# Altium integrated library Resistors.IntLib: 4954 symbols (part 7 of 32)
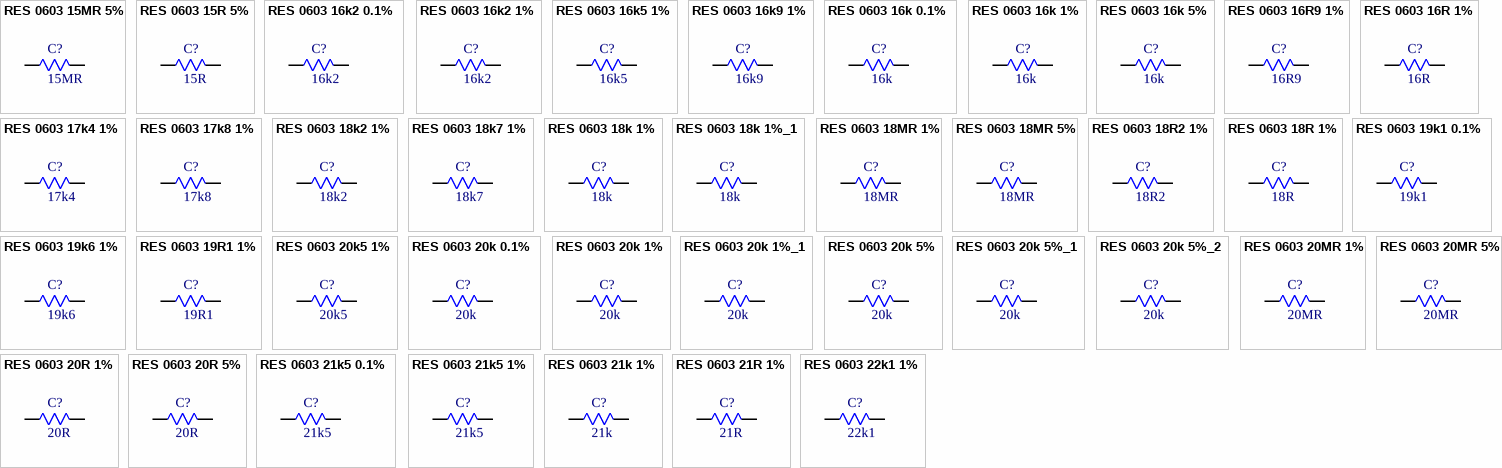
[diagram p129: symbols RES 0603 15MR 5% to RES 0603 22k1 1%]

## RES 0603 21k5 0.1%
designator C?, comment 21k5
100mW 21.5kR 75V Thick Film Resistor 100ppm/â„ƒ 0.1% 0603 Chip Resistor - Surface Mount RoHS; Manufacturer: FOJAN; Manufacturer Part Number: FRH0603B2152TS; Supplier: LCSC; Supplier Part Number: C49196677; Resistance: 21k5; Tolerance: 0.1%; Voltage Rating: 75V; Power: 100mW
footprint RES SMD 0603
pins: 1, 2

## RES 0603 21k5 1%
designator C?, comment 21k5
21.5kR 1% 100mW 0603 Thick Film Resistor; Manufacturer: FOJAN; Manufacturer Part Number: FRC0603F2152TS; Voltage Rating: 75V; Supplier: LCSC; Supplier Part Number: C2933169; Resistance: 21k5; Tolerance: 1%; Power: 100mW
footprint RES SMD 0603
pins: 1, 2

## RES 0603 21k 1%
designator C?, comment 21k
21kR 1% 100mW 0603 Thick Film Resistor; Manufacturer: FOJAN; Manufacturer Part Number: FRC0603F2102TS; Voltage Rating: 75V; Supplier: LCSC; Supplier Part Number: C2930076; Resistance: 21k; Tolerance: 1%; Power: 100mW
footprint RES SMD 0603
pins: 1, 2

## RES 0603 21R 1%
designator C?, comment 21R
21R 1% 100mW 0603 Thick Film Resistor; Manufacturer: FOJAN; Manufacturer Part Number: FRC0603F21R0TS; Voltage Rating: 75V; Supplier: LCSC; Supplier Part Number: C5713281; Resistance: 21R; Tolerance: 1%; Power: 100mW
footprint RES SMD 0603
pins: 1, 2

## RES 0603 22k1 1%
designator C?, comment 22k1
22.1kR 1% 100mW 0603 Thick Film Resistor; Manufacturer: FOJAN; Manufacturer Part Number: FRC0603F2212TS; Voltage Rating: 75V; Supplier: LCSC; Supplier Part Number: C2960862; Resistance: 22k1; Tolerance: 1%; Power: 100mW
footprint RES SMD 0603
pins: 1, 2

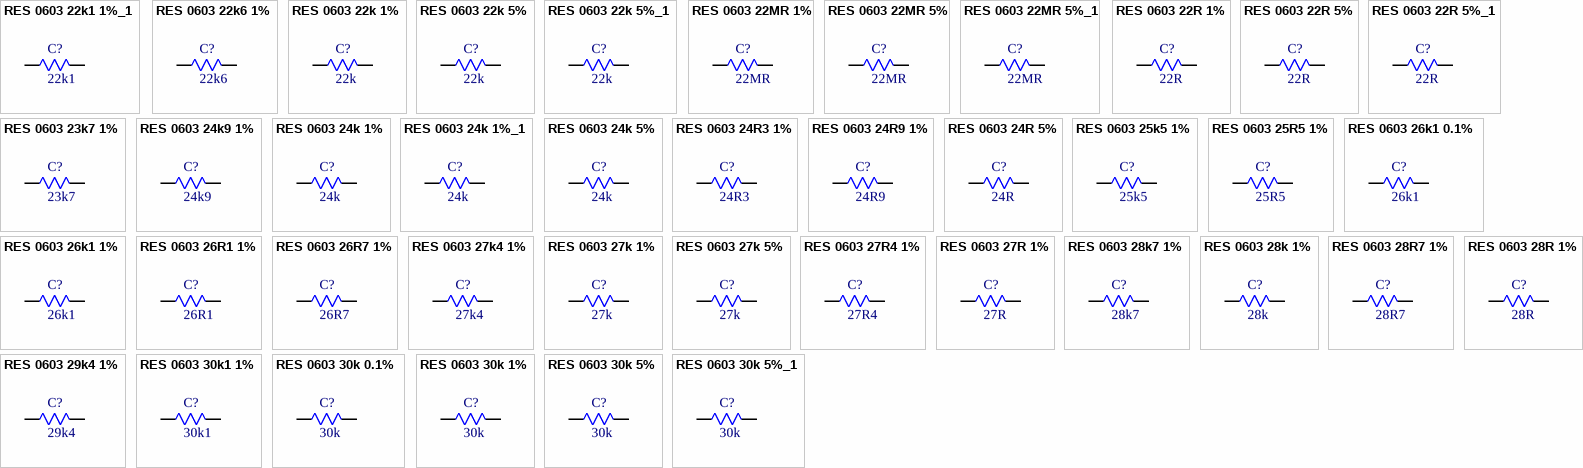
[diagram p24: symbols RES 0603 22k1 1%_1 to RES 0603 30k 5%_1]

## RES 0603 22k1 1%_1
designator C?, comment 22k1
100mW 22.1kR 75V Thick Film Resistor 1% 100ppm/â„ƒ 0603 Chip Resistor - Surface Mount RoHS; Manufacturer: FOJAN; Manufacturer Part Number: FRQ0603F2212TS; Supplier: LCSC; Supplier Part Number: C7468675; Resistance: 22k1; Tolerance: 1%; Voltage Rating: 75V; Power: 100mW
footprint RES SMD 0603
pins: 1, 2

## RES 0603 22k6 1%
designator C?, comment 22k6
22.6kR 1% 100mW 0603 Thick Film Resistor; Manufacturer: FOJAN; Manufacturer Part Number: FRC0603F2262TS; Voltage Rating: 75V; Supplier: LCSC; Supplier Part Number: C2999509; Resistance: 22k6; Tolerance: 1%; Power: 100mW
footprint RES SMD 0603
pins: 1, 2

## RES 0603 22k 1%
designator C?, comment 22k
22kR 1% 100mW 0603 Thick Film Resistor; Manufacturer: FOJAN; Manufacturer Part Number: FRC0603F2202TS; Voltage Rating: 75V; Supplier: LCSC; Supplier Part Number: C2907015; Resistance: 22k; Tolerance: 1%; Power: 100mW
footprint RES SMD 0603
pins: 1, 2

## RES 0603 22k 5%
designator C?, comment 22k
22kR 5% 100mW 0603 Thick Film Resistor; Manufacturer: FOJAN; Manufacturer Part Number: FRC0603J223 TS; Voltage Rating: 75V; Supplier: LCSC; Supplier Part Number: C2907128; Resistance: 22k; Tolerance: 5%; Power: 100mW
footprint RES SMD 0603
pins: 1, 2

## RES 0603 22k 5%_1
designator C?, comment 22k
22kR 5% 100mW 0603 Thick Film Resistor AEC-Q200; Manufacturer: FOJAN; Manufacturer Part Number: FRQ0603J223 TS; Voltage Rating: 75V; Supplier: LCSC; Supplier Part Number: C2934397; Resistance: 22k; Tolerance: 5%; Power: 100mW
footprint RES SMD 0603
pins: 1, 2

## RES 0603 22MR 1%
designator C?, comment 22MR
22MR 1% 100mW 0603 Thick Film Resistor; Manufacturer: FOJAN; Manufacturer Part Number: FRG0603F2205TS; Voltage Rating: 75V; Supplier: LCSC; Supplier Part Number: C3000522; Resistance: 22MR; Tolerance: 1%; Power: 100mW
footprint RES SMD 0603
pins: 1, 2

## RES 0603 22MR 5%
designator C?, comment 22MR
22MR 5% 100mW 0603 Thick Film Resistor; Manufacturer: FOJAN; Manufacturer Part Number: FRG0603J226 TS; Voltage Rating: 75V; Supplier: LCSC; Supplier Part Number: C3013336; Resistance: 22MR; Tolerance: 5%; Power: 100mW
footprint RES SMD 0603
pins: 1, 2

## RES 0603 22MR 5%_1
designator C?, comment 22MR
22MR 5% 100mW 0603 Thick Film Resistor; Manufacturer: FOJAN; Manufacturer Part Number: FRC0603J226TS; Voltage Rating: 75V; Supplier: LCSC; Supplier Part Number: C2930035; Resistance: 22MR; Tolerance: 5%; Power: 100mW
footprint RES SMD 0603
pins: 1, 2

## RES 0603 22R 1%
designator C?, comment 22R
22R 1% 100mW 0603 Thick Film Resistor; Manufacturer: FOJAN; Manufacturer Part Number: FRC0603F22R0TS; Voltage Rating: 75V; Supplier: LCSC; Supplier Part Number: C2930077; Resistance: 22R; Tolerance: 1%; Power: 100mW
footprint RES SMD 0603
pins: 1, 2

## RES 0603 22R 5%
designator C?, comment 22R
22R 5% 100mW 0603 Thick Film Resistor; Manufacturer: FOJAN; Manufacturer Part Number: FRC0603J220 TS; Voltage Rating: 75V; Supplier: LCSC; Supplier Part Number: C2907129; Resistance: 22R; Tolerance: 5%; Power: 100mW
footprint RES SMD 0603
pins: 1, 2

## RES 0603 22R 5%_1
designator C?, comment 22R
22R 100mW 75V Thick Film Resistor 100ppm/â„ƒ 5% 0603 Chip Resistor - Surface Mount RoHS; Manufacturer: FOJAN; Manufacturer Part Number: FRR0603J220 TS; Supplier: LCSC; Supplier Part Number: C49196797; Resistance: 22R; Tolerance: 5%; Voltage Rating: 75V; Power: 100mW
footprint RES SMD 0603
pins: 1, 2

## RES 0603 23k7 1%
designator C?, comment 23k7
23.7kR 1% 100mW 0603 Thick Film Resistor; Manufacturer: FOJAN; Manufacturer Part Number: FRC0603F2372TS; Voltage Rating: 75V; Supplier: LCSC; Supplier Part Number: C2933175; Resistance: 23k7; Tolerance: 1%; Power: 100mW
footprint RES SMD 0603
pins: 1, 2

## RES 0603 24k9 1%
designator C?, comment 24k9
24.9kR 1% 100mW 0603 Thick Film Resistor; Manufacturer: FOJAN; Manufacturer Part Number: FRC0603F2492TS; Voltage Rating: 75V; Supplier: LCSC; Supplier Part Number: C2930080; Resistance: 24k9; Tolerance: 1%; Power: 100mW
footprint RES SMD 0603
pins: 1, 2

## RES 0603 24k 1%
designator C?, comment 24k
24kR 1% 100mW 0603 Thick Film Resistor; Manufacturer: FOJAN; Manufacturer Part Number: FRC0603F2402TS; Voltage Rating: 75V; Supplier: LCSC; Supplier Part Number: C2930081; Resistance: 24k; Tolerance: 1%; Power: 100mW
footprint RES SMD 0603
pins: 1, 2

## RES 0603 24k 1%_1
designator C?, comment 24k
100mW 24kR 75V Thick Film Resistor 1% 100ppm/â„ƒ 0603 Chip Resistor - Surface Mount RoHS; Manufacturer: FOJAN; Manufacturer Part Number: FRQ0603F2402TS; Supplier: LCSC; Supplier Part Number: C7468703; Resistance: 24k; Tolerance: 1%; Voltage Rating: 75V; Power: 100mW
footprint RES SMD 0603
pins: 1, 2

## RES 0603 24k 5%
designator C?, comment 24k
24kR 5% 100mW 0603 Thick Film Resistor; Manufacturer: FOJAN; Manufacturer Part Number: FRC0603J243 TS; Voltage Rating: 75V; Supplier: LCSC; Supplier Part Number: C2907131; Resistance: 24k; Tolerance: 5%; Power: 100mW
footprint RES SMD 0603
pins: 1, 2

## RES 0603 24R3 1%
designator C?, comment 24R3
24.3R 1% 100mW 0603 Thick Film Resistor; Manufacturer: FOJAN; Manufacturer Part Number: FRC0603F24R3TS; Voltage Rating: 75V; Supplier: LCSC; Supplier Part Number: C2999472; Resistance: 24R3; Tolerance: 1%; Power: 100mW
footprint RES SMD 0603
pins: 1, 2

## RES 0603 24R9 1%
designator C?, comment 24R9
24.9R 1% 100mW 0603 Thick Film Resistor; Manufacturer: FOJAN; Manufacturer Part Number: FRC0603F24R9TS; Voltage Rating: 75V; Supplier: LCSC; Supplier Part Number: C5203999; Resistance: 24R9; Tolerance: 1%; Power: 100mW
footprint RES SMD 0603
pins: 1, 2

## RES 0603 24R 5%
designator C?, comment 24R
24R 5% 100mW 0603 Thick Film Resistor; Manufacturer: FOJAN; Manufacturer Part Number: FRC0603J240 TS; Voltage Rating: 75V; Supplier: LCSC; Supplier Part Number: C2907132; Resistance: 24R; Tolerance: 5%; Power: 100mW
footprint RES SMD 0603
pins: 1, 2

## RES 0603 25k5 1%
designator C?, comment 25k5
25.5kR 1% 100mW 0603 Thick Film Resistor; Manufacturer: FOJAN; Manufacturer Part Number: FRC0603F2552TS; Voltage Rating: 75V; Supplier: LCSC; Supplier Part Number: C2933179; Resistance: 25k5; Tolerance: 1%; Power: 100mW
footprint RES SMD 0603
pins: 1, 2

## RES 0603 25R5 1%
designator C?, comment 25R5
25.5R 1% 100mW 0603 Thick Film Resistor; Manufacturer: FOJAN; Manufacturer Part Number: FRC0603F25R5TS; Voltage Rating: 75V; Supplier: LCSC; Supplier Part Number: C5126091; Resistance: 25R5; Tolerance: 1%; Power: 100mW
footprint RES SMD 0603
pins: 1, 2

## RES 0603 26k1 0.1%
designator C?, comment 26k1
100mW 26.1kR 75V Thick Film Resistor 100ppm/â„ƒ 0.1% 0603 Chip Resistor - Surface Mount RoHS; Manufacturer: FOJAN; Manufacturer Part Number: FRH0603B2612TS; Supplier: LCSC; Supplier Part Number: C49196678; Resistance: 26k1; Tolerance: 0.1%; Voltage Rating: 75V; Power: 100mW
footprint RES SMD 0603
pins: 1, 2

## RES 0603 26k1 1%
designator C?, comment 26k1
26.1kR 1% 100mW 0603 Thick Film Resistor; Manufacturer: FOJAN; Manufacturer Part Number: FRC0603F2612TS; Voltage Rating: 75V; Supplier: LCSC; Supplier Part Number: C2933182; Resistance: 26k1; Tolerance: 1%; Power: 100mW
footprint RES SMD 0603
pins: 1, 2

## RES 0603 26R1 1%
designator C?, comment 26R1
26.1R 100mW 75V Thick Film Resistor 100ppm/â„ƒ 1% 0603 Chip Resistor - Surface Mount RoHS; Manufacturer: FOJAN; Manufacturer Part Number: FRC0603F26R1TS; Supplier: LCSC; Supplier Part Number: C22375099; Resistance: 26R1; Tolerance: 1%; Voltage Rating: 75V; Power: 100mW
footprint RES SMD 0603
pins: 1, 2

## RES 0603 26R7 1%
designator C?, comment 26R7
26.7R 1% 100mW 0603 Thick Film Resistor; Manufacturer: FOJAN; Manufacturer Part Number: FRC0603F26R7TS; Voltage Rating: 75V; Supplier: LCSC; Supplier Part Number: C2933185; Resistance: 26R7; Tolerance: 1%; Power: 100mW
footprint RES SMD 0603
pins: 1, 2

## RES 0603 27k4 1%
designator C?, comment 27k4
27.4kR 1% 100mW 0603 Thick Film Resistor; Manufacturer: FOJAN; Manufacturer Part Number: FRC0603F2742TS; Voltage Rating: 75V; Supplier: LCSC; Supplier Part Number: C2933186; Resistance: 27k4; Tolerance: 1%; Power: 100mW
footprint RES SMD 0603
pins: 1, 2

## RES 0603 27k 1%
designator C?, comment 27k
27kR 1% 100mW 0603 Thick Film Resistor; Manufacturer: FOJAN; Manufacturer Part Number: FRC0603F2702TS; Voltage Rating: 75V; Supplier: LCSC; Supplier Part Number: C2930084; Resistance: 27k; Tolerance: 1%; Power: 100mW
footprint RES SMD 0603
pins: 1, 2

## RES 0603 27k 5%
designator C?, comment 27k
27kR 5% 100mW 0603 Thick Film Resistor; Manufacturer: FOJAN; Manufacturer Part Number: FRC0603J273 TS; Voltage Rating: 75V; Supplier: LCSC; Supplier Part Number: C2907135; Resistance: 27k; Tolerance: 5%; Power: 100mW
footprint RES SMD 0603
pins: 1, 2

## RES 0603 27R4 1%
designator C?, comment 27R4
27.4R 1% 100mW 0603 Thick Film Resistor; Manufacturer: FOJAN; Manufacturer Part Number: FRC0603F27R4TS; Voltage Rating: 75V; Supplier: LCSC; Supplier Part Number: C5126244; Resistance: 27R4; Tolerance: 1%; Power: 100mW
footprint RES SMD 0603
pins: 1, 2

## RES 0603 27R 1%
designator C?, comment 27R
27R 1% 100mW 0603 Thick Film Resistor; Manufacturer: FOJAN; Manufacturer Part Number: FRC0603F27R0TS; Voltage Rating: 75V; Supplier: LCSC; Supplier Part Number: C2907021; Resistance: 27R; Tolerance: 1%; Power: 100mW
footprint RES SMD 0603
pins: 1, 2

## RES 0603 28k7 1%
designator C?, comment 28k7
28.7kR 1% 100mW 0603 Thick Film Resistor; Manufacturer: FOJAN; Manufacturer Part Number: FRC0603F2872TS; Voltage Rating: 75V; Supplier: LCSC; Supplier Part Number: C2998119; Resistance: 28k7; Tolerance: 1%; Power: 100mW
footprint RES SMD 0603
pins: 1, 2

## RES 0603 28k 1%
designator C?, comment 28k
28kR 1% 100mW 0603 Thick Film Resistor; Manufacturer: FOJAN; Manufacturer Part Number: FRC0603F2802TS; Voltage Rating: 75V; Supplier: LCSC; Supplier Part Number: C2960810; Resistance: 28k; Tolerance: 1%; Power: 100mW
footprint RES SMD 0603
pins: 1, 2

## RES 0603 28R7 1%
designator C?, comment 28R7
28.7R 1% 100mW 0603 Thick Film Resistor; Manufacturer: FOJAN; Manufacturer Part Number: FRC0603F28R7TS; Voltage Rating: 75V; Supplier: LCSC; Supplier Part Number: C2930085; Resistance: 28R7; Tolerance: 1%; Power: 100mW
footprint RES SMD 0603
pins: 1, 2

## RES 0603 28R 1%
designator C?, comment 28R
28R 1% 100mW 0603 Thick Film Resistor; Manufacturer: FOJAN; Manufacturer Part Number: FRC0603F28R0TS; Voltage Rating: 75V; Supplier: LCSC; Supplier Part Number: C5126020; Resistance: 28R; Tolerance: 1%; Power: 100mW
footprint RES SMD 0603
pins: 1, 2

## RES 0603 29k4 1%
designator C?, comment 29k4
29.4kR 1% 100mW 0603 Thick Film Resistor; Manufacturer: FOJAN; Manufacturer Part Number: FRC0603F2942TS; Voltage Rating: 75V; Supplier: LCSC; Supplier Part Number: C2930086; Resistance: 29k4; Tolerance: 1%; Power: 100mW
footprint RES SMD 0603
pins: 1, 2

## RES 0603 30k1 1%
designator C?, comment 30k1
30.1kR 1% 100mW 0603 Thick Film Resistor; Manufacturer: FOJAN; Manufacturer Part Number: FRC0603F3012TS; Voltage Rating: 75V; Supplier: LCSC; Supplier Part Number: C2960871; Resistance: 30k1; Tolerance: 1%; Power: 100mW
footprint RES SMD 0603
pins: 1, 2

## RES 0603 30k 0.1%
designator C?, comment 30k
100mW 30kR 75V Thick Film Resistor 100ppm/â„ƒ 0.1% 0603 Chip Resistor - Surface Mount RoHS; Manufacturer: FOJAN; Manufacturer Part Number: FRH0603B3002TS; Supplier: LCSC; Supplier Part Number: C49196681; Resistance: 30k; Tolerance: 0.1%; Voltage Rating: 75V; Power: 100mW
footprint RES SMD 0603
pins: 1, 2

## RES 0603 30k 1%
designator C?, comment 30k
30kR 1% 100mW 0603 Thick Film Resistor; Manufacturer: FOJAN; Manufacturer Part Number: FRC0603F3002TS; Voltage Rating: 75V; Supplier: LCSC; Supplier Part Number: C2907025; Resistance: 30k; Tolerance: 1%; Power: 100mW
footprint RES SMD 0603
pins: 1, 2

## RES 0603 30k 5%
designator C?, comment 30k
30kR 5% 100mW 0603 Thick Film Resistor AEC-Q200; Manufacturer: FOJAN; Manufacturer Part Number: FRQ0603J303 TS; Voltage Rating: 75V; Supplier: LCSC; Supplier Part Number: C2934398; Resistance: 30k; Tolerance: 5%; Power: 100mW
footprint RES SMD 0603
pins: 1, 2

## RES 0603 30k 5%_1
designator C?, comment 30k
30kR 5% 100mW 0603 Thick Film Resistor; Manufacturer: FOJAN; Manufacturer Part Number: FRC0603J303 TS; Voltage Rating: 75V; Supplier: LCSC; Supplier Part Number: C2907149; Resistance: 30k; Tolerance: 5%; Power: 100mW
footprint RES SMD 0603
pins: 1, 2

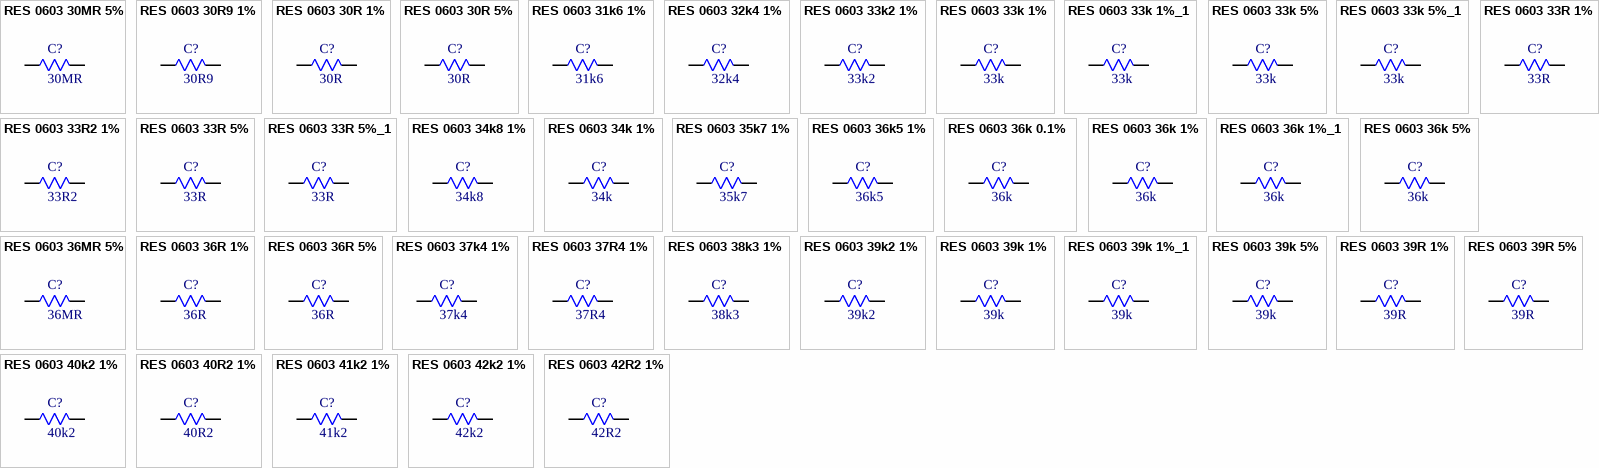
[diagram p25: symbols RES 0603 30MR 5% to RES 0603 42R2 1%]

## RES 0603 30MR 5%
designator C?, comment 30MR
30MR 5% 100mW 0603 Thick Film Resistor; Manufacturer: FOJAN; Manufacturer Part Number: FRG0603J306 TS; Voltage Rating: 75V; Supplier: LCSC; Supplier Part Number: C5126263; Resistance: 30MR; Tolerance: 5%; Power: 100mW
footprint RES SMD 0603
pins: 1, 2

## RES 0603 30R9 1%
designator C?, comment 30R9
30.9R 1% 100mW 0603 Thick Film Resistor; Manufacturer: FOJAN; Manufacturer Part Number: FRC0603F30R9TS; Voltage Rating: 75V; Supplier: LCSC; Supplier Part Number: C5204001; Resistance: 30R9; Tolerance: 1%; Power: 100mW
footprint RES SMD 0603
pins: 1, 2

## RES 0603 30R 1%
designator C?, comment 30R
30R 1% 100mW 0603 Thick Film Resistor; Manufacturer: FOJAN; Manufacturer Part Number: FRC0603F30R0TS; Voltage Rating: 75V; Supplier: LCSC; Supplier Part Number: C2907026; Resistance: 30R; Tolerance: 1%; Power: 100mW
footprint RES SMD 0603
pins: 1, 2

## RES 0603 30R 5%
designator C?, comment 30R
30R 5% 100mW 0603 Thick Film Resistor; Manufacturer: FOJAN; Manufacturer Part Number: FRC0603J300 TS; Voltage Rating: 75V; Supplier: LCSC; Supplier Part Number: C2907150; Resistance: 30R; Tolerance: 5%; Power: 100mW
footprint RES SMD 0603
pins: 1, 2

## RES 0603 31k6 1%
designator C?, comment 31k6
31.6kR 1% 100mW 0603 Thick Film Resistor; Manufacturer: FOJAN; Manufacturer Part Number: FRC0603F3162TS; Voltage Rating: 75V; Supplier: LCSC; Supplier Part Number: C2933196; Resistance: 31k6; Tolerance: 1%; Power: 100mW
footprint RES SMD 0603
pins: 1, 2

## RES 0603 32k4 1%
designator C?, comment 32k4
32.4kR 1% 100mW 0603 Thick Film Resistor; Manufacturer: FOJAN; Manufacturer Part Number: FRC0603F3242TS; Voltage Rating: 75V; Supplier: LCSC; Supplier Part Number: C2998122; Resistance: 32k4; Tolerance: 1%; Power: 100mW
footprint RES SMD 0603
pins: 1, 2

## RES 0603 33k2 1%
designator C?, comment 33k2
33.2kR 1% 100mW 0603 Thick Film Resistor; Manufacturer: FOJAN; Manufacturer Part Number: FRC0603F3322TS; Voltage Rating: 75V; Supplier: LCSC; Supplier Part Number: C2933200; Resistance: 33k2; Tolerance: 1%; Power: 100mW
footprint RES SMD 0603
pins: 1, 2

## RES 0603 33k 1%
designator C?, comment 33k
33kR 1% 100mW 0603 Thick Film Resistor; Manufacturer: FOJAN; Manufacturer Part Number: FRC0603F3302TS; Voltage Rating: 75V; Supplier: LCSC; Supplier Part Number: C2907028; Resistance: 33k; Tolerance: 1%; Power: 100mW
footprint RES SMD 0603
pins: 1, 2

## RES 0603 33k 1%_1
designator C?, comment 33k
33kR 1% 100mW 0603 Thick Film Resistor AEC-Q200; Manufacturer: FOJAN; Manufacturer Part Number: FRQ0603F3302TS; Voltage Rating: 75V; Supplier: LCSC; Supplier Part Number: C5713436; Resistance: 33k; Tolerance: 1%; Power: 100mW
footprint RES SMD 0603
pins: 1, 2

## RES 0603 33k 5%
designator C?, comment 33k
33kR 100mW 75V Thick Film Resistor 5% 100ppm/â„ƒ 0603 Chip Resistor - Surface Mount RoHS; Manufacturer: FOJAN; Manufacturer Part Number: FRQ0603J333 TS; Supplier: LCSC; Supplier Part Number: C7468422; Resistance: 33k; Tolerance: 5%; Voltage Rating: 75V; Power: 100mW
footprint RES SMD 0603
pins: 1, 2

## RES 0603 33k 5%_1
designator C?, comment 33k
33kR 100mW 75V Thick Film Resistor 100ppm/â„ƒ 5% 0603 Chip Resistor - Surface Mount RoHS; Manufacturer: FOJAN; Manufacturer Part Number: FRR0603J333 TS; Supplier: LCSC; Supplier Part Number: C49196802; Resistance: 33k; Tolerance: 5%; Voltage Rating: 75V; Power: 100mW
footprint RES SMD 0603
pins: 1, 2

## RES 0603 33R2 1%
designator C?, comment 33R2
33.2R 1% 100mW 0603 Thick Film Resistor; Manufacturer: FOJAN; Manufacturer Part Number: FRC0603F33R2TS; Voltage Rating: 75V; Supplier: LCSC; Supplier Part Number: C2930093; Resistance: 33R2; Tolerance: 1%; Power: 100mW
footprint RES SMD 0603
pins: 1, 2

## RES 0603 33R 1%
designator C?, comment 33R
33R 1% 100mW 0603 Thick Film Resistor; Manufacturer: FOJAN; Manufacturer Part Number: FRC0603F33R0TS; Voltage Rating: 75V; Supplier: LCSC; Supplier Part Number: C2909394; Resistance: 33R; Tolerance: 1%; Power: 100mW
footprint RES SMD 0603
pins: 1, 2

## RES 0603 33R 5%
designator C?, comment 33R
33R 5% 100mW 0603 Thick Film Resistor; Manufacturer: FOJAN; Manufacturer Part Number: FRC0603J330 TS; Voltage Rating: 75V; Supplier: LCSC; Supplier Part Number: C2907154; Resistance: 33R; Tolerance: 5%; Power: 100mW
footprint RES SMD 0603
pins: 1, 2

## RES 0603 33R 5%_1
designator C?, comment 33R
33R 100mW 75V Thick Film Resistor 100ppm/â„ƒ 5% 0603 Chip Resistor - Surface Mount RoHS; Manufacturer: FOJAN; Manufacturer Part Number: FRR0603J330 TS; Supplier: LCSC; Supplier Part Number: C49196803; Resistance: 33R; Tolerance: 5%; Voltage Rating: 75V; Power: 100mW
footprint RES SMD 0603
pins: 1, 2

## RES 0603 34k8 1%
designator C?, comment 34k8
34.8kR 1% 100mW 0603 Thick Film Resistor; Manufacturer: FOJAN; Manufacturer Part Number: FRC0603F3482TS; Voltage Rating: 75V; Supplier: LCSC; Supplier Part Number: C2933204; Resistance: 34k8; Tolerance: 1%; Power: 100mW
footprint RES SMD 0603
pins: 1, 2

## RES 0603 34k 1%
designator C?, comment 34k
34kR 1% 100mW 0603 Thick Film Resistor; Manufacturer: FOJAN; Manufacturer Part Number: FRC0603F3402TS; Voltage Rating: 75V; Supplier: LCSC; Supplier Part Number: C2933202; Resistance: 34k; Tolerance: 1%; Power: 100mW
footprint RES SMD 0603
pins: 1, 2

## RES 0603 35k7 1%
designator C?, comment 35k7
35.7kR 1% 100mW 0603 Thick Film Resistor; Manufacturer: FOJAN; Manufacturer Part Number: FRC0603F3572TS; Voltage Rating: 75V; Supplier: LCSC; Supplier Part Number: C2933207; Resistance: 35k7; Tolerance: 1%; Power: 100mW
footprint RES SMD 0603
pins: 1, 2

## RES 0603 36k5 1%
designator C?, comment 36k5
36.5kR 1% 100mW 0603 Thick Film Resistor; Manufacturer: FOJAN; Manufacturer Part Number: FRC0603F3652TS; Voltage Rating: 75V; Supplier: LCSC; Supplier Part Number: C2930095; Resistance: 36k5; Tolerance: 1%; Power: 100mW
footprint RES SMD 0603
pins: 1, 2

## RES 0603 36k 0.1%
designator C?, comment 36k
100mW 36kR 75V Thick Film Resistor 100ppm/â„ƒ 0.1% 0603 Chip Resistor - Surface Mount RoHS; Manufacturer: FOJAN; Manufacturer Part Number: FRH0603B3602TS; Supplier: LCSC; Supplier Part Number: C49196670; Resistance: 36k; Tolerance: 0.1%; Voltage Rating: 75V; Power: 100mW
footprint RES SMD 0603
pins: 1, 2

## RES 0603 36k 1%
designator C?, comment 36k
36kR 1% 100mW 0603 Thick Film Resistor; Manufacturer: FOJAN; Manufacturer Part Number: FRC0603F3602TS; Voltage Rating: 75V; Supplier: LCSC; Supplier Part Number: C2930097; Resistance: 36k; Tolerance: 1%; Power: 100mW
footprint RES SMD 0603
pins: 1, 2

## RES 0603 36k 1%_1
designator C?, comment 36k
36kR 100mW 75V Thick Film Resistor 1% 100ppm/â„ƒ 0603 Chip Resistor - Surface Mount RoHS; Manufacturer: FOJAN; Manufacturer Part Number: FRQ0603F3602TS; Supplier: LCSC; Supplier Part Number: C7468664; Resistance: 36k; Tolerance: 1%; Voltage Rating: 75V; Power: 100mW
footprint RES SMD 0603
pins: 1, 2

## RES 0603 36k 5%
designator C?, comment 36k
36kR 5% 100mW 0603 Thick Film Resistor; Manufacturer: FOJAN; Manufacturer Part Number: FRC0603J363 TS; Voltage Rating: 75V; Supplier: LCSC; Supplier Part Number: C2907156; Resistance: 36k; Tolerance: 5%; Power: 100mW
footprint RES SMD 0603
pins: 1, 2

## RES 0603 36MR 5%
designator C?, comment 36MR
36MR 5% 100mW 0603 Thick Film Resistor; Manufacturer: FOJAN; Manufacturer Part Number: FRG0603J366TS; Voltage Rating: 75V; Supplier: LCSC; Supplier Part Number: C3000775; Resistance: 36MR; Tolerance: 5%; Power: 100mW
footprint RES SMD 0603
pins: 1, 2

## RES 0603 36R 1%
designator C?, comment 36R
36R 1% 100mW 0603 Thick Film Resistor; Manufacturer: FOJAN; Manufacturer Part Number: FRC0603F36R0TS; Voltage Rating: 75V; Supplier: LCSC; Supplier Part Number: C2933209; Resistance: 36R; Tolerance: 1%; Power: 100mW
footprint RES SMD 0603
pins: 1, 2

## RES 0603 36R 5%
designator C?, comment 36R
36R 5% 100mW 0603 Thick Film Resistor; Manufacturer: FOJAN; Manufacturer Part Number: FRC0603J360 TS; Voltage Rating: 75V; Supplier: LCSC; Supplier Part Number: C2907157; Resistance: 36R; Tolerance: 5%; Power: 100mW
footprint RES SMD 0603
pins: 1, 2

## RES 0603 37k4 1%
designator C?, comment 37k4
37.4kR 1% 100mW 0603 Thick Film Resistor; Manufacturer: FOJAN; Manufacturer Part Number: FRC0603F3742TS; Voltage Rating: 75V; Supplier: LCSC; Supplier Part Number: C2933211; Resistance: 37k4; Tolerance: 1%; Power: 100mW
footprint RES SMD 0603
pins: 1, 2

## RES 0603 37R4 1%
designator C?, comment 37R4
37.4R 1% 100mW 0603 Thick Film Resistor; Manufacturer: FOJAN; Manufacturer Part Number: FRC0603F37R4TS; Voltage Rating: 75V; Supplier: LCSC; Supplier Part Number: C2933212; Resistance: 37R4; Tolerance: 1%; Power: 100mW
footprint RES SMD 0603
pins: 1, 2

## RES 0603 38k3 1%
designator C?, comment 38k3
38.3kR 1% 100mW 0603 Thick Film Resistor; Manufacturer: FOJAN; Manufacturer Part Number: FRC0603F3832TS; Voltage Rating: 75V; Supplier: LCSC; Supplier Part Number: C2999480; Resistance: 38k3; Tolerance: 1%; Power: 100mW
footprint RES SMD 0603
pins: 1, 2

## RES 0603 39k2 1%
designator C?, comment 39k2
39.2kR 100mW 75V Thick Film Resistor 100ppm/â„ƒ 1% 0603 Chip Resistor - Surface Mount RoHS; Manufacturer: FOJAN; Manufacturer Part Number: FRR0603F3922TS; Supplier: LCSC; Supplier Part Number: C49196772; Resistance: 39k2; Tolerance: 1%; Voltage Rating: 75V; Power: 100mW
footprint RES SMD 0603
pins: 1, 2

## RES 0603 39k 1%
designator C?, comment 39k
39kR 1% 100mW 0603 Thick Film Resistor; Manufacturer: FOJAN; Manufacturer Part Number: FRC0603F3902TS; Voltage Rating: 75V; Supplier: LCSC; Supplier Part Number: C2930098; Resistance: 39k; Tolerance: 1%; Power: 100mW
footprint RES SMD 0603
pins: 1, 2

## RES 0603 39k 1%_1
designator C?, comment 39k
100mW 39kR 75V Thick Film Resistor 1% 100ppm/â„ƒ 0603 Chip Resistor - Surface Mount RoHS; Manufacturer: FOJAN; Manufacturer Part Number: FRQ0603F3902TS; Supplier: LCSC; Supplier Part Number: C7468509; Resistance: 39k; Tolerance: 1%; Voltage Rating: 75V; Power: 100mW
footprint RES SMD 0603
pins: 1, 2

## RES 0603 39k 5%
designator C?, comment 39k
39kR 5% 100mW 0603 Thick Film Resistor; Manufacturer: FOJAN; Manufacturer Part Number: FRC0603J393 TS; Voltage Rating: 75V; Supplier: LCSC; Supplier Part Number: C2907160; Resistance: 39k; Tolerance: 5%; Power: 100mW
footprint RES SMD 0603
pins: 1, 2

## RES 0603 39R 1%
designator C?, comment 39R
39R 1% 100mW 0603 Thick Film Resistor; Manufacturer: FOJAN; Manufacturer Part Number: FRC0603F39R0TS; Voltage Rating: 75V; Supplier: LCSC; Supplier Part Number: C2907032; Resistance: 39R; Tolerance: 1%; Power: 100mW
footprint RES SMD 0603
pins: 1, 2

## RES 0603 39R 5%
designator C?, comment 39R
39R 5% 100mW 0603 Thick Film Resistor; Manufacturer: FOJAN; Manufacturer Part Number: FRC0603J390 TS; Voltage Rating: 75V; Supplier: LCSC; Supplier Part Number: C2907161; Resistance: 39R; Tolerance: 5%; Power: 100mW
footprint RES SMD 0603
pins: 1, 2

## RES 0603 40k2 1%
designator C?, comment 40k2
40.2kR 1% 100mW 0603 Thick Film Resistor; Manufacturer: FOJAN; Manufacturer Part Number: FRC0603F4022TS; Voltage Rating: 75V; Supplier: LCSC; Supplier Part Number: C2933218; Resistance: 40k2; Tolerance: 1%; Power: 100mW
footprint RES SMD 0603
pins: 1, 2

## RES 0603 40R2 1%
designator C?, comment 40R2
40.2R 1% 100mW 0603 Thick Film Resistor; Manufacturer: FOJAN; Manufacturer Part Number: FRC0603F40R2TS; Voltage Rating: 75V; Supplier: LCSC; Supplier Part Number: C2999484; Resistance: 40R2; Tolerance: 1%; Power: 100mW
footprint RES SMD 0603
pins: 1, 2

## RES 0603 41k2 1%
designator C?, comment 41k2
41.2kR 1% 100mW 0603 Thick Film Resistor; Manufacturer: FOJAN; Manufacturer Part Number: FRC0603F4122TS; Voltage Rating: 75V; Supplier: LCSC; Supplier Part Number: C2930101; Resistance: 41k2; Tolerance: 1%; Power: 100mW
footprint RES SMD 0603
pins: 1, 2

## RES 0603 42k2 1%
designator C?, comment 42k2
42.2kR 1% 100mW 0603 Thick Film Resistor; Manufacturer: FOJAN; Manufacturer Part Number: FRC0603F4222TS; Voltage Rating: 75V; Supplier: LCSC; Supplier Part Number: C5126245; Resistance: 42k2; Tolerance: 1%; Power: 100mW
footprint RES SMD 0603
pins: 1, 2

## RES 0603 42R2 1%
designator C?, comment 42R2
42.2R 1% 100mW 0603 Thick Film Resistor; Manufacturer: FOJAN; Manufacturer Part Number: FRC0603F42R2TS; Voltage Rating: 75V; Supplier: LCSC; Supplier Part Number: C2999554; Resistance: 42R2; Tolerance: 1%; Power: 100mW
footprint RES SMD 0603
pins: 1, 2

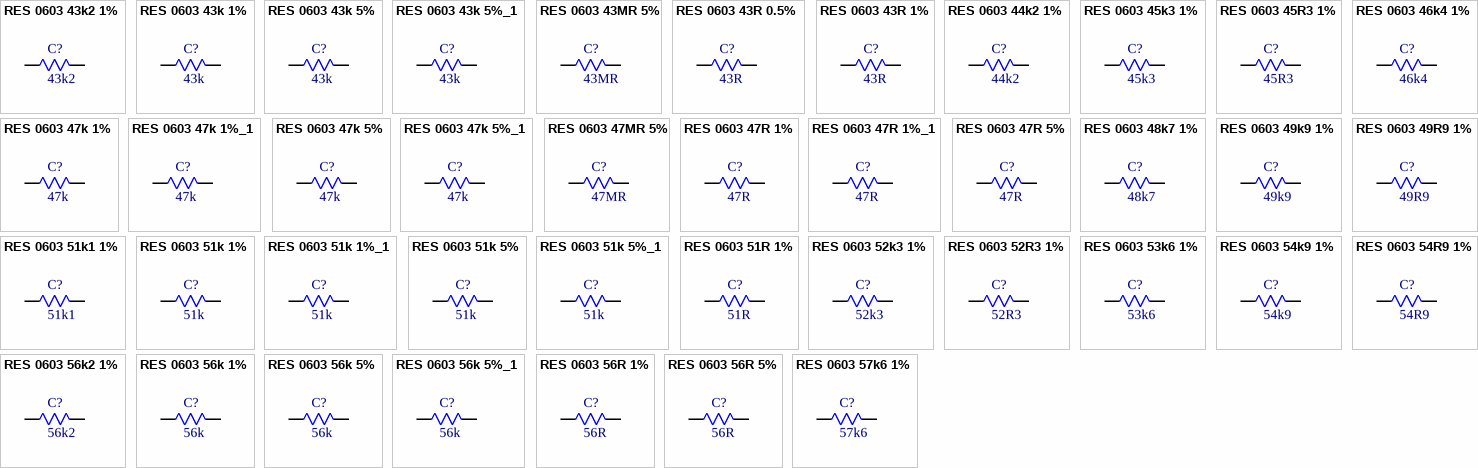
[diagram p26: symbols RES 0603 43k2 1% to RES 0603 57k6 1%]

## RES 0603 43k2 1%
designator C?, comment 43k2
43.2kR 1% 100mW 0603 Thick Film Resistor; Manufacturer: FOJAN; Manufacturer Part Number: FRC0603F4322TS; Voltage Rating: 75V; Supplier: LCSC; Supplier Part Number: C2930102; Resistance: 43k2; Tolerance: 1%; Power: 100mW
footprint RES SMD 0603
pins: 1, 2

## RES 0603 43k 1%
designator C?, comment 43k
43kR 1% 100mW 0603 Thick Film Resistor; Manufacturer: FOJAN; Manufacturer Part Number: FRC0603F4302TS; Voltage Rating: 75V; Supplier: LCSC; Supplier Part Number: C2907038; Resistance: 43k; Tolerance: 1%; Power: 100mW
footprint RES SMD 0603
pins: 1, 2

## RES 0603 43k 5%
designator C?, comment 43k
43kR 5% 100mW 0603 Thick Film Resistor; Manufacturer: FOJAN; Manufacturer Part Number: FRC0603J433 TS; Voltage Rating: 75V; Supplier: LCSC; Supplier Part Number: C2907170; Resistance: 43k; Tolerance: 5%; Power: 100mW
footprint RES SMD 0603
pins: 1, 2

## RES 0603 43k 5%_1
designator C?, comment 43k
100mW 43kR 75V Thick Film Resistor 5% 0603 Chip Resistor - Surface Mount RoHS; Manufacturer: FOJAN; Manufacturer Part Number: FRR0603J433 TS; Supplier: LCSC; Supplier Part Number: C51048112; Resistance: 43k; Tolerance: 5%; Voltage Rating: 75V; Power: 100mW
footprint RES SMD 0603
pins: 1, 2

## RES 0603 43MR 5%
designator C?, comment 43MR
43MR 100mW Thick Film Resistor 200ppm/â„ƒ 5% 0603 Chip Resistor - Surface Mount RoHS; Manufacturer: FOJAN; Manufacturer Part Number: FRG0603J436 TS; Supplier: LCSC; Supplier Part Number: C7468694; Resistance: 43MR; Tolerance: 5%; Power: 100mW
footprint RES SMD 0603
pins: 1, 2

## RES 0603 43R 0.5%
designator C?, comment 43R
43R 0.5% 100mW 0603 Thick Film Resistor; Manufacturer: FOJAN; Manufacturer Part Number: FRH0603D43R0TSV; Voltage Rating: 75V; Supplier: LCSC; Supplier Part Number: C3013342; Resistance: 43R; Tolerance: 0.5%; Power: 100mW
footprint RES SMD 0603
pins: 1, 2

## RES 0603 43R 1%
designator C?, comment 43R
43R 1% 100mW 0603 Thick Film Resistor; Manufacturer: FOJAN; Manufacturer Part Number: FRC0603F43R0TS; Voltage Rating: 75V; Supplier: LCSC; Supplier Part Number: C2907039; Resistance: 43R; Tolerance: 1%; Power: 100mW
footprint RES SMD 0603
pins: 1, 2

## RES 0603 44k2 1%
designator C?, comment 44k2
44.2kR 1% 100mW 0603 Thick Film Resistor; Manufacturer: FOJAN; Manufacturer Part Number: FRC0603F4422TS; Voltage Rating: 75V; Supplier: LCSC; Supplier Part Number: C2930103; Resistance: 44k2; Tolerance: 1%; Power: 100mW
footprint RES SMD 0603
pins: 1, 2

## RES 0603 45k3 1%
designator C?, comment 45k3
45.3kR 1% 100mW 0603 Thick Film Resistor; Manufacturer: FOJAN; Manufacturer Part Number: FRC0603F4532TS; Voltage Rating: 75V; Supplier: LCSC; Supplier Part Number: C2933224; Resistance: 45k3; Tolerance: 1%; Power: 100mW
footprint RES SMD 0603
pins: 1, 2

## RES 0603 45R3 1%
designator C?, comment 45R3
45.3R 1% 100mW 0603 Thick Film Resistor; Manufacturer: FOJAN; Manufacturer Part Number: FRC0603F45R3TS; Voltage Rating: 75V; Supplier: LCSC; Supplier Part Number: C2998138; Resistance: 45R3; Tolerance: 1%; Power: 100mW
footprint RES SMD 0603
pins: 1, 2

## RES 0603 46k4 1%
designator C?, comment 46k4
46.4kR 1% 100mW 0603 Thick Film Resistor; Manufacturer: FOJAN; Manufacturer Part Number: FRC0603F4642TS; Voltage Rating: 75V; Supplier: LCSC; Supplier Part Number: C3013203; Resistance: 46k4; Tolerance: 1%; Power: 100mW
footprint RES SMD 0603
pins: 1, 2

## RES 0603 47k 1%
designator C?, comment 47k
47kR 1% 100mW 0603 Thick Film Resistor; Manufacturer: FOJAN; Manufacturer Part Number: FRC0603F4702TS; Voltage Rating: 75V; Supplier: LCSC; Supplier Part Number: C2907042; Resistance: 47k; Tolerance: 1%; Power: 100mW
footprint RES SMD 0603
pins: 1, 2

## RES 0603 47k 1%_1
designator C?, comment 47k
47kR 1% 100mW 0603 Thick Film Resistor AEC-Q200; Manufacturer: FOJAN; Manufacturer Part Number: FRQ0603F4702TS; Voltage Rating: 75V; Supplier: LCSC; Supplier Part Number: C5713441; Resistance: 47k; Tolerance: 1%; Power: 100mW
footprint RES SMD 0603
pins: 1, 2

## RES 0603 47k 5%
designator C?, comment 47k
47kR 5% 100mW 0603 Thick Film Resistor AEC-Q200; Manufacturer: FOJAN; Manufacturer Part Number: FRQ0603J473 TS; Voltage Rating: 75V; Supplier: LCSC; Supplier Part Number: C2934399; Resistance: 47k; Tolerance: 5%; Power: 100mW
footprint RES SMD 0603
pins: 1, 2

## RES 0603 47k 5%_1
designator C?, comment 47k
47kR 100mW 75V Thick Film Resistor 100ppm/â„ƒ 5% 0603 Chip Resistor - Surface Mount RoHS; Manufacturer: FOJAN; Manufacturer Part Number: FRR0603J473 TS; Supplier: LCSC; Supplier Part Number: C49196776; Resistance: 47k; Tolerance: 5%; Voltage Rating: 75V; Power: 100mW
footprint RES SMD 0603
pins: 1, 2

## RES 0603 47MR 5%
designator C?, comment 47MR
47MR 5% 100mW 0603 Thick Film Resistor; Manufacturer: FOJAN; Manufacturer Part Number: FRG0603J476 TS; Voltage Rating: 75V; Supplier: LCSC; Supplier Part Number: C5159705; Resistance: 47MR; Tolerance: 5%; Power: 100mW
footprint RES SMD 0603
pins: 1, 2

## RES 0603 47R 1%
designator C?, comment 47R
47R 1% 100mW 0603 Thick Film Resistor; Manufacturer: FOJAN; Manufacturer Part Number: FRC0603F47R0TS; Voltage Rating: 75V; Supplier: LCSC; Supplier Part Number: C2907043; Resistance: 47R; Tolerance: 1%; Power: 100mW
footprint RES SMD 0603
pins: 1, 2

## RES 0603 47R 1%_1
designator C?, comment 47R
100mW 47R 75V Thick Film Resistor 100ppm/â„ƒ 1% 0603 Chip Resistor - Surface Mount RoHS; Manufacturer: FOJAN; Manufacturer Part Number: FRQ0603F47R0TS; Supplier: LCSC; Supplier Part Number: C49196887; Resistance: 47R; Tolerance: 1%; Voltage Rating: 75V; Power: 100mW
footprint RES SMD 0603
pins: 1, 2

## RES 0603 47R 5%
designator C?, comment 47R
47R 5% 100mW 0603 Thick Film Resistor; Manufacturer: FOJAN; Manufacturer Part Number: FRC0603J470 TS; Voltage Rating: 75V; Supplier: LCSC; Supplier Part Number: C2907174; Resistance: 47R; Tolerance: 5%; Power: 100mW
footprint RES SMD 0603
pins: 1, 2

## RES 0603 48k7 1%
designator C?, comment 48k7
48.7kR 1% 100mW 0603 Thick Film Resistor; Manufacturer: FOJAN; Manufacturer Part Number: FRC0603F4872TS; Voltage Rating: 75V; Supplier: LCSC; Supplier Part Number: C2933226; Resistance: 48k7; Tolerance: 1%; Power: 100mW
footprint RES SMD 0603
pins: 1, 2

## RES 0603 49k9 1%
designator C?, comment 49k9
49.9kR 1% 100mW 0603 Thick Film Resistor; Manufacturer: FOJAN; Manufacturer Part Number: FRC0603F4992TS; Voltage Rating: 75V; Supplier: LCSC; Supplier Part Number: C2930109; Resistance: 49k9; Tolerance: 1%; Power: 100mW
footprint RES SMD 0603
pins: 1, 2

## RES 0603 49R9 1%
designator C?, comment 49R9
49.9R 1% 100mW 0603 Thick Film Resistor; Manufacturer: FOJAN; Manufacturer Part Number: FRC0603F49R9TS; Voltage Rating: 75V; Supplier: LCSC; Supplier Part Number: C2930110; Resistance: 49R9; Tolerance: 1%; Power: 100mW
footprint RES SMD 0603
pins: 1, 2

## RES 0603 51k1 1%
designator C?, comment 51k1
51.1kR 1% 100mW 0603 Thick Film Resistor; Manufacturer: FOJAN; Manufacturer Part Number: FRC0603F5112TS; Voltage Rating: 75V; Supplier: LCSC; Supplier Part Number: C2933234; Resistance: 51k1; Tolerance: 1%; Power: 100mW
footprint RES SMD 0603
pins: 1, 2

## RES 0603 51k 1%
designator C?, comment 51k
51kR 1% 100mW 0603 Thick Film Resistor; Manufacturer: FOJAN; Manufacturer Part Number: FRC0603F5102TS; Voltage Rating: 75V; Supplier: LCSC; Supplier Part Number: C2907049; Resistance: 51k; Tolerance: 1%; Power: 100mW
footprint RES SMD 0603
pins: 1, 2

## RES 0603 51k 1%_1
designator C?, comment 51k
51kR 100mW Thick Film Resistor 1% 100ppm/â„ƒ 0603 Chip Resistor - Surface Mount RoHS; Manufacturer: FOJAN; Manufacturer Part Number: FRQ0603F5102TS; Supplier: LCSC; Supplier Part Number: C7468490; Resistance: 51k; Tolerance: 1%; Power: 100mW
footprint RES SMD 0603
pins: 1, 2

## RES 0603 51k 5%
designator C?, comment 51k
51kR 5% 100mW 0603 Thick Film Resistor; Manufacturer: FOJAN; Manufacturer Part Number: FRC0603J513 TS; Voltage Rating: 75V; Supplier: LCSC; Supplier Part Number: C2907180; Resistance: 51k; Tolerance: 5%; Power: 100mW
footprint RES SMD 0603
pins: 1, 2

## RES 0603 51k 5%_1
designator C?, comment 51k
51kR 100mW 75V Thick Film Resistor 5% 100ppm/â„ƒ 0603 Chip Resistor - Surface Mount RoHS; Manufacturer: FOJAN; Manufacturer Part Number: FRQ0603J513 TS; Supplier: LCSC; Supplier Part Number: C7468425; Resistance: 51k; Tolerance: 5%; Voltage Rating: 75V; Power: 100mW
footprint RES SMD 0603
pins: 1, 2

## RES 0603 51R 1%
designator C?, comment 51R
51R 1% 100mW 0603 Thick Film Resistor; Manufacturer: FOJAN; Manufacturer Part Number: FRC0603F51R0TS; Voltage Rating: 75V; Supplier: LCSC; Supplier Part Number: C2907050; Resistance: 51R; Tolerance: 1%; Power: 100mW
footprint RES SMD 0603
pins: 1, 2

## RES 0603 52k3 1%
designator C?, comment 52k3
52.3kR 1% 100mW 0603 Thick Film Resistor; Manufacturer: FOJAN; Manufacturer Part Number: FRC0603F5232TS; Voltage Rating: 75V; Supplier: LCSC; Supplier Part Number: C2933235; Resistance: 52k3; Tolerance: 1%; Power: 100mW
footprint RES SMD 0603
pins: 1, 2

## RES 0603 52R3 1%
designator C?, comment 52R3
52.3R 1% 100mW 0603 Thick Film Resistor; Manufacturer: FOJAN; Manufacturer Part Number: FRC0603F52R3TS; Voltage Rating: 75V; Supplier: LCSC; Supplier Part Number: C2998074; Resistance: 52R3; Tolerance: 1%; Power: 100mW
footprint RES SMD 0603
pins: 1, 2

## RES 0603 53k6 1%
designator C?, comment 53k6
53.6kR 1% 100mW 0603 Thick Film Resistor; Manufacturer: FOJAN; Manufacturer Part Number: FRC0603F5362TS; Voltage Rating: 75V; Supplier: LCSC; Supplier Part Number: C2930115; Resistance: 53k6; Tolerance: 1%; Power: 100mW
footprint RES SMD 0603
pins: 1, 2

## RES 0603 54k9 1%
designator C?, comment 54k9
54.9kR 1% 100mW 0603 Thick Film Resistor; Manufacturer: FOJAN; Manufacturer Part Number: FRC0603F5492TS; Voltage Rating: 75V; Supplier: LCSC; Supplier Part Number: C2999457; Resistance: 54k9; Tolerance: 1%; Power: 100mW
footprint RES SMD 0603
pins: 1, 2

## RES 0603 54R9 1%
designator C?, comment 54R9
100mW 54.9R 75V Thick Film Resistor 100ppm/â„ƒ 1% 0603 Chip Resistor - Surface Mount RoHS; Manufacturer: FOJAN; Manufacturer Part Number: FRC0603F54R9TS; Supplier: LCSC; Supplier Part Number: C19268619; Resistance: 54R9; Tolerance: 1%; Voltage Rating: 75V; Power: 100mW
footprint RES SMD 0603
pins: 1, 2

## RES 0603 56k2 1%
designator C?, comment 56k2
56.2kR 1% 100mW 0603 Thick Film Resistor; Manufacturer: FOJAN; Manufacturer Part Number: FRC0603F5622TS; Voltage Rating: 75V; Supplier: LCSC; Supplier Part Number: C2930117; Resistance: 56k2; Tolerance: 1%; Power: 100mW
footprint RES SMD 0603
pins: 1, 2

## RES 0603 56k 1%
designator C?, comment 56k
56kR 1% 100mW 0603 Thick Film Resistor; Manufacturer: FOJAN; Manufacturer Part Number: FRC0603F5602TS; Voltage Rating: 75V; Supplier: LCSC; Supplier Part Number: C2907053; Resistance: 56k; Tolerance: 1%; Power: 100mW
footprint RES SMD 0603
pins: 1, 2

## RES 0603 56k 5%
designator C?, comment 56k
56kR 5% 100mW 0603 Thick Film Resistor; Manufacturer: FOJAN; Manufacturer Part Number: FRC0603J563 TS; Voltage Rating: 75V; Supplier: LCSC; Supplier Part Number: C2907184; Resistance: 56k; Tolerance: 5%; Power: 100mW
footprint RES SMD 0603
pins: 1, 2

## RES 0603 56k 5%_1
designator C?, comment 56k
56kR 5% 100mW 0603 Thick Film Resistor AEC-Q200; Manufacturer: FOJAN; Manufacturer Part Number: FRQ0603J563 TS; Voltage Rating: 75V; Supplier: LCSC; Supplier Part Number: C2934401; Resistance: 56k; Tolerance: 5%; Power: 100mW
footprint RES SMD 0603
pins: 1, 2

## RES 0603 56R 1%
designator C?, comment 56R
56R 1% 100mW 0603 Thick Film Resistor; Manufacturer: FOJAN; Manufacturer Part Number: FRC0603F56R0TS; Voltage Rating: 75V; Supplier: LCSC; Supplier Part Number: C2930118; Resistance: 56R; Tolerance: 1%; Power: 100mW
footprint RES SMD 0603
pins: 1, 2

## RES 0603 56R 5%
designator C?, comment 56R
56R 5% 100mW 0603 Thick Film Resistor; Manufacturer: FOJAN; Manufacturer Part Number: FRC0603J560 TS; Voltage Rating: 75V; Supplier: LCSC; Supplier Part Number: C2907185; Resistance: 56R; Tolerance: 5%; Power: 100mW
footprint RES SMD 0603
pins: 1, 2

## RES 0603 57k6 1%
designator C?, comment 57k6
57.6kR 1% 100mW 0603 Thick Film Resistor; Manufacturer: FOJAN; Manufacturer Part Number: FRC0603F5762TS; Voltage Rating: 75V; Supplier: LCSC; Supplier Part Number: C2933240; Resistance: 57k6; Tolerance: 1%; Power: 100mW
footprint RES SMD 0603
pins: 1, 2

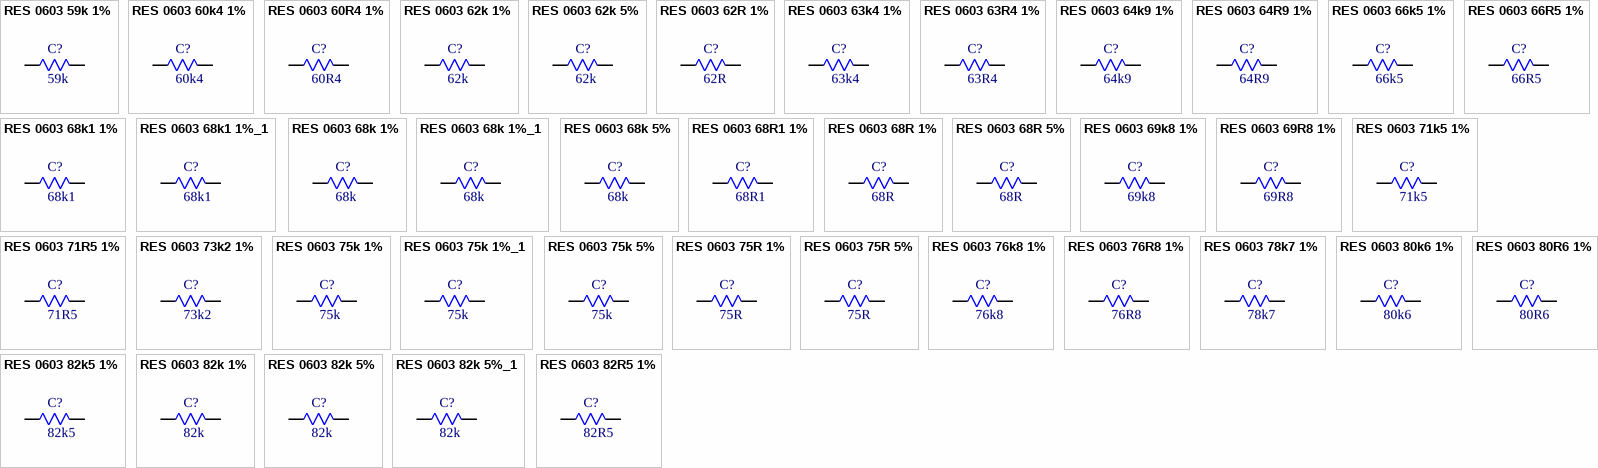
[diagram p27: symbols RES 0603 59k 1% to RES 0603 82R5 1%]

## RES 0603 59k 1%
designator C?, comment 59k
59kR 1% 100mW 0603 Thick Film Resistor; Manufacturer: FOJAN; Manufacturer Part Number: FRC0603F5902TS; Voltage Rating: 75V; Supplier: LCSC; Supplier Part Number: C2933243; Resistance: 59k; Tolerance: 1%; Power: 100mW
footprint RES SMD 0603
pins: 1, 2

## RES 0603 60k4 1%
designator C?, comment 60k4
60.4kR 1% 100mW 0603 Thick Film Resistor; Manufacturer: FOJAN; Manufacturer Part Number: FRC0603F6042TS; Voltage Rating: 75V; Supplier: LCSC; Supplier Part Number: C2933245; Resistance: 60k4; Tolerance: 1%; Power: 100mW
footprint RES SMD 0603
pins: 1, 2

## RES 0603 60R4 1%
designator C?, comment 60R4
60.4R 1% 100mW 0603 Thick Film Resistor; Manufacturer: FOJAN; Manufacturer Part Number: FRC0603F60R4TS; Voltage Rating: 75V; Supplier: LCSC; Supplier Part Number: C2933247; Resistance: 60R4; Tolerance: 1%; Power: 100mW
footprint RES SMD 0603
pins: 1, 2

## RES 0603 62k 1%
designator C?, comment 62k
62kR 1% 100mW 0603 Thick Film Resistor; Manufacturer: FOJAN; Manufacturer Part Number: FRC0603F6202TS; Voltage Rating: 75V; Supplier: LCSC; Supplier Part Number: C2907059; Resistance: 62k; Tolerance: 1%; Power: 100mW
footprint RES SMD 0603
pins: 1, 2

## RES 0603 62k 5%
designator C?, comment 62k
62kR 5% 100mW 0603 Thick Film Resistor; Manufacturer: FOJAN; Manufacturer Part Number: FRC0603J623 TS; Voltage Rating: 75V; Supplier: LCSC; Supplier Part Number: C2907192; Resistance: 62k; Tolerance: 5%; Power: 100mW
footprint RES SMD 0603
pins: 1, 2

## RES 0603 62R 1%
designator C?, comment 62R
62R 1% 100mW 0603 Thick Film Resistor; Manufacturer: FOJAN; Manufacturer Part Number: FRC0603F62R0TS; Voltage Rating: 75V; Supplier: LCSC; Supplier Part Number: C2907060; Resistance: 62R; Tolerance: 1%; Power: 100mW
footprint RES SMD 0603
pins: 1, 2

## RES 0603 63k4 1%
designator C?, comment 63k4
63.4kR 1% 100mW 0603 Thick Film Resistor; Manufacturer: FOJAN; Manufacturer Part Number: FRC0603F6342TS; Voltage Rating: 75V; Supplier: LCSC; Supplier Part Number: C2999593; Resistance: 63k4; Tolerance: 1%; Power: 100mW
footprint RES SMD 0603
pins: 1, 2

## RES 0603 63R4 1%
designator C?, comment 63R4
63.4R 1% 100mW 0603 Thick Film Resistor; Manufacturer: FOJAN; Manufacturer Part Number: FRC0603F63R4TS; Voltage Rating: 75V; Supplier: LCSC; Supplier Part Number: C5204005; Resistance: 63R4; Tolerance: 1%; Power: 100mW
footprint RES SMD 0603
pins: 1, 2

## RES 0603 64k9 1%
designator C?, comment 64k9
64.9kR 1% 100mW 0603 Thick Film Resistor; Manufacturer: FOJAN; Manufacturer Part Number: FRC0603F6492TS; Voltage Rating: 75V; Supplier: LCSC; Supplier Part Number: C2960807; Resistance: 64k9; Tolerance: 1%; Power: 100mW
footprint RES SMD 0603
pins: 1, 2

## RES 0603 64R9 1%
designator C?, comment 64R9
64.9R 1% 100mW 0603 Thick Film Resistor; Manufacturer: FOJAN; Manufacturer Part Number: FRC0603F64R9TS; Voltage Rating: 75V; Supplier: LCSC; Supplier Part Number: C2998132; Resistance: 64R9; Tolerance: 1%; Power: 100mW
footprint RES SMD 0603
pins: 1, 2

## RES 0603 66k5 1%
designator C?, comment 66k5
66.5kR 1% 100mW 0603 Thick Film Resistor; Manufacturer: FOJAN; Manufacturer Part Number: FRC0603F6652TS; Voltage Rating: 75V; Supplier: LCSC; Supplier Part Number: C2933250; Resistance: 66k5; Tolerance: 1%; Power: 100mW
footprint RES SMD 0603
pins: 1, 2

## RES 0603 66R5 1%
designator C?, comment 66R5
66.5R 1% 100mW 0603 Thick Film Resistor; Manufacturer: FOJAN; Manufacturer Part Number: FRC0603F66R5TS; Voltage Rating: 75V; Supplier: LCSC; Supplier Part Number: C5153978; Resistance: 66R5; Tolerance: 1%; Power: 100mW
footprint RES SMD 0603
pins: 1, 2

## RES 0603 68k1 1%
designator C?, comment 68k1
68.1kR 1% 100mW 0603 Thick Film Resistor; Manufacturer: FOJAN; Manufacturer Part Number: FRC0603F6812TS; Voltage Rating: 75V; Supplier: LCSC; Supplier Part Number: C2933251; Resistance: 68k1; Tolerance: 1%; Power: 100mW
footprint RES SMD 0603
pins: 1, 2

## RES 0603 68k1 1%_1
designator C?, comment 68k1
68.1kR 100mW 75V Thick Film Resistor 1% 0603 Chip Resistor - Surface Mount RoHS; Manufacturer: FOJAN; Manufacturer Part Number: FRQ0603F6812TS; Supplier: LCSC; Supplier Part Number: C51048213; Resistance: 68k1; Tolerance: 1%; Voltage Rating: 75V; Power: 100mW
footprint RES SMD 0603
pins: 1, 2

## RES 0603 68k 1%
designator C?, comment 68k
68kR 1% 100mW 0603 Thick Film Resistor; Manufacturer: FOJAN; Manufacturer Part Number: FRC0603F6802TS; Voltage Rating: 75V; Supplier: LCSC; Supplier Part Number: C2907063; Resistance: 68k; Tolerance: 1%; Power: 100mW
footprint RES SMD 0603
pins: 1, 2

## RES 0603 68k 1%_1
designator C?, comment 68k
68kR 100mW 75V Thick Film Resistor 1% 100ppm/â„ƒ 0603 Chip Resistor - Surface Mount RoHS; Manufacturer: FOJAN; Manufacturer Part Number: FRQ0603F6802TS; Supplier: LCSC; Supplier Part Number: C7468704; Resistance: 68k; Tolerance: 1%; Voltage Rating: 75V; Power: 100mW
footprint RES SMD 0603
pins: 1, 2

## RES 0603 68k 5%
designator C?, comment 68k
68kR 5% 100mW 0603 Thick Film Resistor; Manufacturer: FOJAN; Manufacturer Part Number: FRC0603J683 TS; Voltage Rating: 75V; Supplier: LCSC; Supplier Part Number: C2907196; Resistance: 68k; Tolerance: 5%; Power: 100mW
footprint RES SMD 0603
pins: 1, 2

## RES 0603 68R1 1%
designator C?, comment 68R1
68.1R 1% 100mW 0603 Thick Film Resistor; Manufacturer: FOJAN; Manufacturer Part Number: FRC0603F68R1TS; Voltage Rating: 75V; Supplier: LCSC; Supplier Part Number: C2933253; Resistance: 68R1; Tolerance: 1%; Power: 100mW
footprint RES SMD 0603
pins: 1, 2

## RES 0603 68R 1%
designator C?, comment 68R
68R 1% 100mW 0603 Thick Film Resistor; Manufacturer: FOJAN; Manufacturer Part Number: FRC0603F68R0TS; Voltage Rating: 75V; Supplier: LCSC; Supplier Part Number: C2907064; Resistance: 68R; Tolerance: 1%; Power: 100mW
footprint RES SMD 0603
pins: 1, 2

## RES 0603 68R 5%
designator C?, comment 68R
68R 5% 100mW 0603 Thick Film Resistor; Manufacturer: FOJAN; Manufacturer Part Number: FRC0603J680 TS; Voltage Rating: 75V; Supplier: LCSC; Supplier Part Number: C2907197; Resistance: 68R; Tolerance: 5%; Power: 100mW
footprint RES SMD 0603
pins: 1, 2

## RES 0603 69k8 1%
designator C?, comment 69k8
69.8kR 1% 100mW 0603 Thick Film Resistor; Manufacturer: FOJAN; Manufacturer Part Number: FRC0603F6982TS; Voltage Rating: 75V; Supplier: LCSC; Supplier Part Number: C2930012; Resistance: 69k8; Tolerance: 1%; Power: 100mW
footprint RES SMD 0603
pins: 1, 2

## RES 0603 69R8 1%
designator C?, comment 69R8
69.8R 1% 100mW 0603 Thick Film Resistor; Manufacturer: FOJAN; Manufacturer Part Number: FRC0603F69R8TS; Voltage Rating: 75V; Supplier: LCSC; Supplier Part Number: C2930126; Resistance: 69R8; Tolerance: 1%; Power: 100mW
footprint RES SMD 0603
pins: 1, 2

## RES 0603 71k5 1%
designator C?, comment 71k5
71.5kR 1% 100mW 0603 Thick Film Resistor; Manufacturer: FOJAN; Manufacturer Part Number: FRC0603F7152TS; Voltage Rating: 75V; Supplier: LCSC; Supplier Part Number: C2960803; Resistance: 71k5; Tolerance: 1%; Power: 100mW
footprint RES SMD 0603
pins: 1, 2

## RES 0603 71R5 1%
designator C?, comment 71R5
71.5R 1% 100mW 0603 Thick Film Resistor; Manufacturer: FOJAN; Manufacturer Part Number: FRC0603F71R5TS; Voltage Rating: 75V; Supplier: LCSC; Supplier Part Number: C2933255; Resistance: 71R5; Tolerance: 1%; Power: 100mW
footprint RES SMD 0603
pins: 1, 2

## RES 0603 73k2 1%
designator C?, comment 73k2
73.2kR 1% 100mW 0603 Thick Film Resistor; Manufacturer: FOJAN; Manufacturer Part Number: FRC0603F7322TS; Voltage Rating: 75V; Supplier: LCSC; Supplier Part Number: C2933257; Resistance: 73k2; Tolerance: 1%; Power: 100mW
footprint RES SMD 0603
pins: 1, 2

## RES 0603 75k 1%
designator C?, comment 75k
75kR 1% 100mW 0603 Thick Film Resistor; Manufacturer: FOJAN; Manufacturer Part Number: FRC0603F7502TS; Voltage Rating: 75V; Supplier: LCSC; Supplier Part Number: C2907067; Resistance: 75k; Tolerance: 1%; Power: 100mW
footprint RES SMD 0603
pins: 1, 2

## RES 0603 75k 1%_1
designator C?, comment 75k
75kR 100mW 75V Thick Film Resistor 100ppm/â„ƒ 1% 0603 Chip Resistor - Surface Mount RoHS; Manufacturer: FOJAN; Manufacturer Part Number: FRR0603F7502TS; Supplier: LCSC; Supplier Part Number: C49196784; Resistance: 75k; Tolerance: 1%; Voltage Rating: 75V; Power: 100mW
footprint RES SMD 0603
pins: 1, 2

## RES 0603 75k 5%
designator C?, comment 75k
75kR 5% 100mW 0603 Thick Film Resistor; Manufacturer: FOJAN; Manufacturer Part Number: FRC0603J753 TS; Voltage Rating: 75V; Supplier: LCSC; Supplier Part Number: C2907203; Resistance: 75k; Tolerance: 5%; Power: 100mW
footprint RES SMD 0603
pins: 1, 2

## RES 0603 75R 1%
designator C?, comment 75R
75R 1% 100mW 0603 Thick Film Resistor; Manufacturer: FOJAN; Manufacturer Part Number: FRC0603F75R0TS; Voltage Rating: 75V; Supplier: LCSC; Supplier Part Number: C2907068; Resistance: 75R; Tolerance: 1%; Power: 100mW
footprint RES SMD 0603
pins: 1, 2

## RES 0603 75R 5%
designator C?, comment 75R
75R 5% 100mW 0603 Thick Film Resistor; Manufacturer: FOJAN; Manufacturer Part Number: FRC0603J750 TS; Voltage Rating: 75V; Supplier: LCSC; Supplier Part Number: C2907204; Resistance: 75R; Tolerance: 5%; Power: 100mW
footprint RES SMD 0603
pins: 1, 2

## RES 0603 76k8 1%
designator C?, comment 76k8
76.8kR 1% 100mW 0603 Thick Film Resistor; Manufacturer: FOJAN; Manufacturer Part Number: FRC0603F7682TS; Voltage Rating: 75V; Supplier: LCSC; Supplier Part Number: C2930130; Resistance: 76k8; Tolerance: 1%; Power: 100mW
footprint RES SMD 0603
pins: 1, 2

## RES 0603 76R8 1%
designator C?, comment 76R8
76.8R 1% 100mW 0603 Thick Film Resistor; Manufacturer: FOJAN; Manufacturer Part Number: FRC0603F76R8TS; Voltage Rating: 75V; Supplier: LCSC; Supplier Part Number: C2930131; Resistance: 76R8; Tolerance: 1%; Power: 100mW
footprint RES SMD 0603
pins: 1, 2

## RES 0603 78k7 1%
designator C?, comment 78k7
78.7kR 1% 100mW 0603 Thick Film Resistor; Manufacturer: FOJAN; Manufacturer Part Number: FRC0603F7872TS; Voltage Rating: 75V; Supplier: LCSC; Supplier Part Number: C2999622; Resistance: 78k7; Tolerance: 1%; Power: 100mW
footprint RES SMD 0603
pins: 1, 2

## RES 0603 80k6 1%
designator C?, comment 80k6
80.6kR 1% 100mW 0603 Thick Film Resistor; Manufacturer: FOJAN; Manufacturer Part Number: FRC0603F8062TS; Voltage Rating: 75V; Supplier: LCSC; Supplier Part Number: C2933260; Resistance: 80k6; Tolerance: 1%; Power: 100mW
footprint RES SMD 0603
pins: 1, 2

## RES 0603 80R6 1%
designator C?, comment 80R6
80.6R 1% 100mW 0603 Thick Film Resistor; Manufacturer: FOJAN; Manufacturer Part Number: FRC0603F80R6TS; Voltage Rating: 75V; Supplier: LCSC; Supplier Part Number: C2999455; Resistance: 80R6; Tolerance: 1%; Power: 100mW
footprint RES SMD 0603
pins: 1, 2

## RES 0603 82k5 1%
designator C?, comment 82k5
82.5kR 1% 100mW 0603 Thick Film Resistor; Manufacturer: FOJAN; Manufacturer Part Number: FRC0603F8252TS; Voltage Rating: 75V; Supplier: LCSC; Supplier Part Number: C2999460; Resistance: 82k5; Tolerance: 1%; Power: 100mW
footprint RES SMD 0603
pins: 1, 2